# EAGLE library part FH12-40S-0.5SH (library connector)
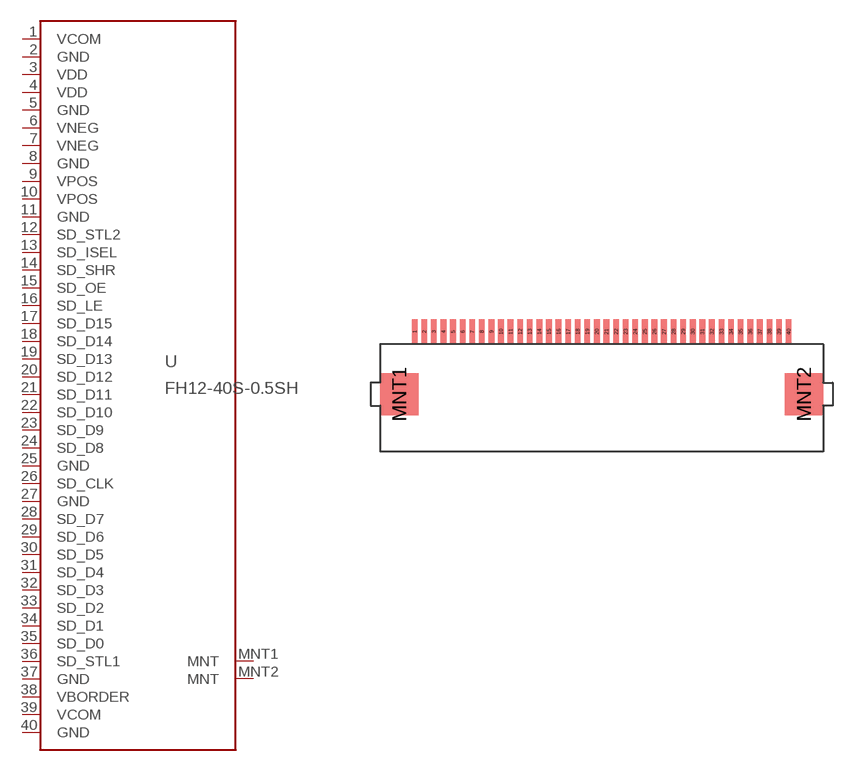
[diagram p0: symbol with the pads of FH12-40S-0.5SH; footprint FH12-40S-0.5SH]

Designator prefix -

## FH12-40S-0.5SH  [FH12-40S-0.5SH]
1  VCOM  pwr
2  GND  pwr
3  VDD  pwr
4  VDD  pwr
5  GND  pwr
6  VNEG  pwr
7  VNEG  pwr
8  GND  pwr
9  VPOS  pwr
10  VPOS  pwr
11  GND  pwr
12  SD_STL2  in
13  SD_ISEL  in
14  SD_SHR  in
15  SD_OE  in
16  SD_LE  in
17  SD_D15  in
18  SD_D14  in
19  SD_D13  in
20  SD_D12  in
21  SD_D11  in
22  SD_D10  in
23  SD_D9  in
24  SD_D8  in
25  GND  pwr
26  SD_CLK  in
27  GND  pwr
28  SD_D7  in
29  SD_D6  in
30  SD_D5  in
31  SD_D4  in
32  SD_D3  in
33  SD_D2  in
34  SD_D1  in
35  SD_D0  in
36  SD_STL1  in
37  GND  pwr
38  VBORDER  pwr
39  VCOM  pwr
40  GND  pwr
MNT1  MNT  pwr
MNT2  MNT  pwr

## FH12-40S-0.5SHINVERT  [FH12-40S-0.5SH]
1  GND  pwr
2  VCOM  pwr
3  VBORDER  pwr
4  GND  pwr
5  SD_STL1  in
6  SD_D0  in
7  SD_D1  in
8  SD_D2  in
9  SD_D3  in
10  SD_D4  in
11  SD_D5  in
12  SD_D6  in
13  SD_D7  in
14  GND  pwr
15  SD_CLK  in
16  GND  pwr
17  SD_D8  in
18  SD_D9  in
19  SD_D10  in
20  SD_D11  in
21  SD_D12  in
22  SD_D13  in
23  SD_D14  in
24  SD_D15  in
25  SD_LE  in
26  SD_OE  in
27  SD_SHR  in
28  SD_ISEL  in
29  SD_STL2  in
30  GND  pwr
31  VPOS  pwr
32  VPOS  pwr
33  GND  pwr
34  VNEG  pwr
35  VNEG  pwr
36  GND  pwr
37  VDD  pwr
38  VDD  pwr
39  GND  pwr
40  VCOM  pwr
MNT1  MNT  pwr
MNT2  MNT  pwr

## Footprint FH12-40S-0.5SH (pad centres in mm)
FH12-40S-0.5SH Auto generated by make-symbol-device-package-bsdl.ulp Rev. 44
smd 0.3 x 1.3: 1 -9.75,0.65; 2 -9.25,0.65; 3 -8.75,0.65; 4 -8.25,0.65; 5 -7.75,0.65; 6 -7.25,0.65; 7 -6.75,0.65; 8 -6.25,0.65; 9 -5.75,0.65; 10 -5.25,0.65; 11 -4.75,0.65; 12 -4.25,0.65; 13 -3.75,0.65; 14 -3.25,0.65; 15 -2.75,0.65; 16 -2.25,0.65; 17 -1.75,0.65; 18 -1.25,0.65; 19 -0.75,0.65; 20 -0.25,0.65; 21 0.25,0.65; 22 0.75,0.65; 23 1.25,0.65; 24 1.75,0.65; 25 2.25,0.65; 26 2.75,0.65; 27 3.25,0.65; 28 3.75,0.65; 29 4.25,0.65; 30 4.75,0.65; 31 5.25,0.65; 32 5.75,0.65; 33 6.25,0.65; 34 6.75,0.65; 35 7.25,0.65; 36 7.75,0.65; 37 8.25,0.65; 38 8.75,0.65; 39 9.25,0.65; 40 9.75,0.65
smd 2 x 2.2: MNT1 -10.55,-2.6; MNT2 10.55,-2.6